# Altium schematic symbol library HZ ChMic4501_1013.SchLib: 91 symbols
Pins are listed as number, name and electrical type; pins without a type are passive.

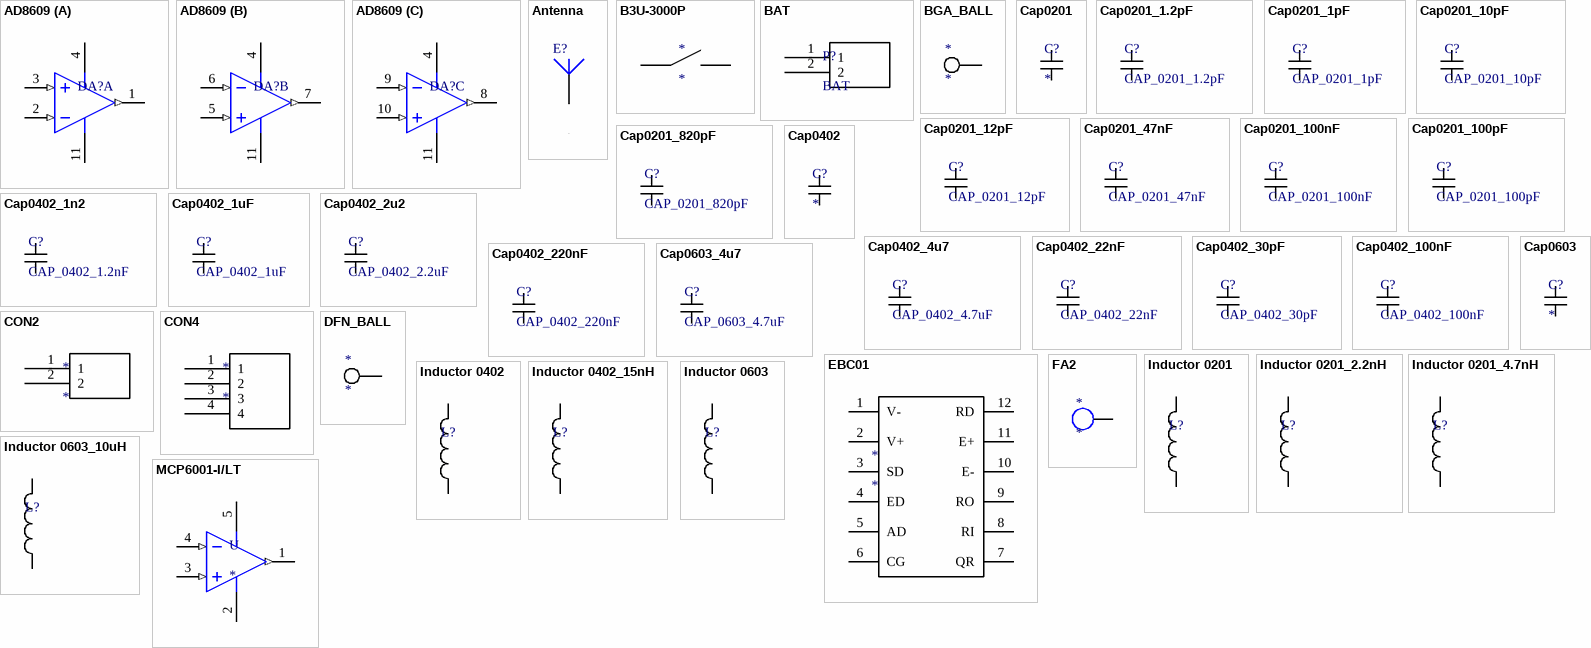
[diagram p0: symbols AD8609 to MCP6001-I/LT]

## AD8609
designator DA?  (value not drawn)
Manufacturer: Analog Devices; Manufacturer p/n: AD8609ARUZ; Glued: Yes; LatestRevisionDate: 17-Nov-2022; SMD: Yes
footprint TSSOP14
part A pins: 1 OUT (out), 2 -IN (in), 3 +IN (in), 4 VDDA (power), 11 GND (power)
part B pins: 4 VDDA (power), 5 +IN (in), 6 -IN (in), 7 OUT (out), 11 GND (power)
part C pins: 4 VDDA (power), 8 OUT (out), 9 -IN (in), 10 +IN (in), 11 GND (power)

## Antenna
designator E?
Generic Antenna; Glued: No; Published: 24-Mar-1999; LatestRevisionDate: 17-Nov-2022; PackageReference: PIN1; Publisher: Altium Limited; SMD: No
footprint 2.4G_4.3x11.8(TEST)
pins: 1 A, 2

## B3U-3000P
designator *
Manufacturer: Omron; Manufacturer p/n: B3U-3000P; Glued: No; ComponentLink1Description: Manufacturer; ComponentLink1URL: http://components.omron.eu; ComponentLink2Description: Datasheet; ComponentLink2URL: https://omronfs.omron.com/en_US/ecb/products/pdf/en-b3u.pdf; SMD: Yes; Family: Buttons
footprint B3U-3000P
pins: 1, 2

## BAT
designator P?
LP350826, LP450824, LP400824, LP420828, LP450829, LP500829 lipolbattery.com/LiPo-Battery-10mah+.html; Glued: N/A; LatestRevisionDate: 17-Nov-2022; SMD: Connecting Pad
footprint CON2
pins: 1, 2

## BGA_BALL
designator *
footprint BBGA_4x4_0.5mm_BALL
pins: 1

## Cap0201
designator C?
Glued: Yes; SMD: Yes; Family: Capacitor; LatestRevisionDate: 17-Nov-2022; ComponentLink1Description: Manufacturer; ComponentLink2Description: Datasheet
footprint CAP_0201 (Chip Capacitor, 2-Leads, Body 0.60x0.30mm, IPC High Density)
pins: 1, 2

## Cap0201_1.2pF
designator C?, comment CAP_0201_1.2pF
Manufacturer: Tayio Yuden; Manufacturer p/n: UMK063CG1R2CTHF; Glued: Yes; Value: 1.2pF; Tolerance: NP0-5%; SMD: Yes; Family: Capacitor; LatestRevisionDate: 17-Nov-2022; ComponentLink1Description: Manufacturer; ComponentLink2Description: Datasheet
footprint CAP_0201 (Chip Capacitor, 2-Leads, Body 0.60x0.30mm, IPC High Density)
pins: 1, 2

## Cap0201_1pF
designator C?, comment CAP_0201_1pF
Manufacturer: Tayio Yuden; Manufacturer p/n: UMK063CG010CTHF; Tolerance: NP0-5%; Glued: Yes; Value: 1pF; SMD: Yes; Family: Capacitor; LatestRevisionDate: 17-Nov-2022; ComponentLink1Description: Manufacturer; ComponentLink2Description: Datasheet
footprint CAP_0201 (Chip Capacitor, 2-Leads, Body 0.60x0.30mm, IPC High Density)
pins: 1, 2

## Cap0201_10pF
designator C?, comment CAP_0201_10pF
Manufacturer: Tayio Yuden; Manufacturer p/n: UMK063CG100DTHF; Glued: Yes; Value: 10pF; Tolerance: NP0-2%; SMD: Yes; Family: Capacitor; LatestRevisionDate: 17-Nov-2022; ComponentLink1Description: Manufacturer; ComponentLink2Description: Datasheet
footprint CAP_0201 (Chip Capacitor, 2-Leads, Body 0.60x0.30mm, IPC High Density)
pins: 1, 2

## Cap0201_12pF
designator C?, comment CAP_0201_12pF
Manufacturer: Tayio Yuden; Manufacturer p/n: UMK063CG120JTHF; Glued: Yes; Value: 12pF; Tolerance: NP0-2%; SMD: Yes; Family: Capacitor; LatestRevisionDate: 17-Nov-2022; ComponentLink1Description: Manufacturer; ComponentLink2Description: Datasheet
footprint CAP_0201 (Chip Capacitor, 2-Leads, Body 0.60x0.30mm, IPC High Density)
pins: 1, 2

## Cap0201_47nF
designator C?, comment CAP_0201_47nF
Manufacturer: Tayio Yuden; Manufacturer p/n: LMK063BJ473MP-F; Glued: Yes; Value: 47nF; Tolerance: X7S-10%; SMD: Yes; Family: Capacitor; LatestRevisionDate: 17-Nov-2022; ComponentLink1Description: Manufacturer; ComponentLink2Description: Datasheet
footprint CAP_0201 (Chip Capacitor, 2-Leads, Body 0.60x0.30mm, IPC High Density)
pins: 1, 2

## Cap0201_100nF
designator C?, comment CAP_0201_100nF
Manufacturer: Tayio Yuden; Manufacturer p/n: LMK063C6104KP-F; Glued: Yes; Value: 100nF; Tolerance: X7S-10%; SMD: Yes; Family: Capacitor; LatestRevisionDate: 17-Nov-2022; ComponentLink1Description: Manufacturer; ComponentLink2Description: Datasheet
footprint CAP_0201 (Chip Capacitor, 2-Leads, Body 0.60x0.30mm, IPC High Density)
pins: 1, 2

## Cap0201_100pF
designator C?, comment CAP_0201_100pF
Manufacturer: Tayio Yuden; Manufacturer p/n: TMK063BJ101KP-F; Glued: Yes; Value: 100pF; Tolerance: NP0-5%; SMD: Yes; Family: Capacitor; LatestRevisionDate: 17-Nov-2022; ComponentLink1Description: Manufacturer; ComponentLink2Description: Datasheet
footprint CAP_0201 (Chip Capacitor, 2-Leads, Body 0.60x0.30mm, IPC High Density)
pins: 1, 2

## Cap0201_820pF
designator C?, comment CAP_0201_820pF
Manufacturer: Tayio Yuden; Manufacturer p/n: UMK063CG1R2CTHF; Glued: Yes; Value: 820pF; Tolerance: X7R-10%; SMD: Yes; Family: Capacitor; LatestRevisionDate: 17-Nov-2022; ComponentLink1Description: Manufacturer; ComponentLink2Description: Datasheet
footprint CAP_0201 (Chip Capacitor, 2-Leads, Body 0.60x0.30mm, IPC High Density)
pins: 1, 2

## Cap0402
designator C?
Glued: Yes; SMD: Yes; Family: Capacitor; LatestRevisionDate: 17-Nov-2022; ComponentLink1Description: Manufacturer; ComponentLink2Description: Datasheet
footprint CAP_0402
pins: 1, 2

## Cap0402_1n2
designator C?, comment CAP_0402_1.2nF
Manufacturer: Taiyo Yuden; Manufacturer p/n: UMK105BJ122KV-F; Glued: Yes; Value: 1.2nF; Tolerance: 10%; SMD: Yes; Family: Capacitor; LatestRevisionDate: 17-Nov-2022; ComponentLink1Description: Manufacturer; ComponentLink2Description: Datasheet
footprint CAP_0402
pins: 1, 2

## Cap0402_1uF
designator C?, comment CAP_0402_1uF
Manufacturer: Taiyo Yuden; Manufacturer p/n: JMK105BJ105KV8F; Glued: Yes; Value: 1uF; Tolerance: X7S-10%; SMD: Yes; Family: Capacitor; LatestRevisionDate: 17-Nov-2022; ComponentLink1Description: Manufacturer; ComponentLink2Description: Datasheet
footprint CAP_0402
pins: 1, 2

## Cap0402_2u2
designator C?, comment CAP_0402_2.2uF
Manufacturer: Taiyo Yuden; Manufacturer p/n: EMK105CC6225KV-F; Glued: Yes; Value: 2.2uF; Tolerance: 10%; SMD: Yes; Family: Capacitor; LatestRevisionDate: 17-Nov-2022; ComponentLink1Description: Manufacturer; ComponentLink2Description: Datasheet
footprint CAP_0402
pins: 1, 2

## Cap0402_4u7
designator C?, comment CAP_0402_4.7uF
Manufacturer: Taiyo Yuden; Manufacturer p/n: JMK105BC6475MV-F; Glued: Yes; Value: 4.7uF; Tolerance: 10%; SMD: Yes; Family: Capacitor; LatestRevisionDate: 17-Nov-2022; ComponentLink1Description: Manufacturer; ComponentLink2Description: Datasheet
footprint CAP_0402
pins: 1, 2

## Cap0402_22nF
designator C?, comment CAP_0402_22nF
Lifecycle: End of Life; Manufacturer: Vishay; Manufacturer p/n: VJ0402V223MXACW1BC; Glued: Yes; Value: 22nF; Tolerance: 10%; SMD: Yes; Family: Capacitor; LatestRevisionDate: 17-Nov-2022; ComponentLink1Description: Manufacturer; ComponentLink2Description: Datasheet
footprint CAP_0402
pins: 1, 2

## Cap0402_30pF
designator C?, comment CAP_0402_30pF
Manufacturer: Yageo; Manufacturer p/n: CC0402JRNP09BN300; Glued: Yes; Value: 30pF; Tolerance: 10%; SMD: Yes; Family: Capacitor; LatestRevisionDate: 17-Nov-2022; ComponentLink1Description: Manufacturer; ComponentLink2Description: Datasheet
footprint CAP_0402
pins: 1, 2

## Cap0402_100nF
designator C?, comment CAP_0402_100nF
Manufacturer: Vishay; Manufacturer p/n: VJ0402Y104KXXCW1BC; Glued: Yes; Value: 100nF; Tolerance: 10%; SMD: Yes; Family: Capacitor; LatestRevisionDate: 17-Nov-2022; ComponentLink1Description: Manufacturer; ComponentLink2Description: Datasheet
footprint CAP_0402
pins: 1, 2

## Cap0402_220nF
designator C?, comment CAP_0402_220nF
Manufacturer: Taiyo Yuden; Manufacturer p/n: LMK105B7224KV-FR; Glued: Yes; Value: 220nF; Tolerance: 10%; SMD: Yes; Family: Capacitor; LatestRevisionDate: 17-Nov-2022; ComponentLink1Description: Manufacturer; ComponentLink2Description: Datasheet
footprint CAP_0402
pins: 1, 2

## Cap0603
designator C?
Glued: Yes; SMD: Yes; Family: Capacitor; LatestRevisionDate: 17-Nov-2022; ComponentLink1Description: Manufacturer; ComponentLink2Description: Datasheet
footprint CAP_0603
pins: 1, 2

## Cap0603_4u7
designator C?, comment CAP_0603_4.7uF
Manufacturer: Taiyo Yuden; Manufacturer p/n: LMK107BJ475MAHT; Glued: Yes; Value: 4.7uF; Tolerance: 10%; SMD: Yes; Family: Capacitor; LatestRevisionDate: 17-Nov-2022; ComponentLink1Description: Manufacturer; ComponentLink2Description: Datasheet
footprint CAP_0603
pins: 1, 2

## CON2
designator *
Glued: N/A; LatestRevisionDate: 17-Nov-2022; SMD: Connecting Pad
footprint CON2_2
pins: 1, 2

## CON4
designator *
Glued: N/A; LatestRevisionDate: 17-Nov-2022; SMD: Connecting Pad
footprint CON4
pins: 1, 2, 3, 4

## DFN_BALL
designator *  (no BOM)
footprint SOLDER_POINT_12
pins: 1

## EBC01
designator *
footprint EBC01
pins: 1 V-, 2 V+, 3 SD, 4 ED, 5 AD, 6 CG, 7 QR, 8 RI, 9 RO, 10 E-, 11 E+, 12 RD

## FA2
designator *
Glued: N/A; LatestRevisionDate: 17-Nov-2022; SMD: No
footprint FA2
pins: 2

## Inductor 0201
designator L?  (value not drawn)
Glued: Yes; SMD: Yes; LatestRevisionDate: 17-Nov-2022; ComponentLink1Description: anufacturer; ComponentLink2Description: Datasheet
footprint IND_0201 (Chip Capacitor, 2-Leads, Body 0.60x0.30mm, IPC High Density)
pins: 1, 2

## Inductor 0201_2.2nH
designator L?  (value not drawn)
Manufacturer: Murata; Manufacturer p/n: LQW03AW2N2C00D; Glued: Yes; Tolerance: 5% tol.; SMD: Yes; LatestRevisionDate: 17-Nov-2022; ComponentLink1Description: anufacturer; ComponentLink2Description: Datasheet
footprint IND_0201 (Chip Capacitor, 2-Leads, Body 0.60x0.30mm, IPC High Density)
pins: 1, 2

## Inductor 0201_4.7nH
designator L?  (value not drawn)
Manufacturer: Murata; Manufacturer p/n: LQW03AW4N7J00D; Glued: Yes; Tolerance: 5% tol.; SMD: Yes; LatestRevisionDate: 17-Nov-2022; ComponentLink1Description: anufacturer; ComponentLink2Description: Datasheet
footprint IND_0201 (Chip Capacitor, 2-Leads, Body 0.60x0.30mm, IPC High Density)
pins: 1, 2

## Inductor 0402
designator L?  (value not drawn)
Glued: Yes; SMD: Yes; LatestRevisionDate: 17-Nov-2022; ComponentLink1Description: anufacturer; ComponentLink2Description: Datasheet
footprint IND_0402
pins: 1, 2

## Inductor 0402_15nH
designator L?  (value not drawn)
Manufacturer: Abracon; Manufacturer p/n: AIMC-0402HQ-15NG-T; Glued: Yes; Tolerance: 10% tol.; SMD: Yes; LatestRevisionDate: 17-Nov-2022; ComponentLink1Description: anufacturer; ComponentLink2Description: Datasheet
footprint IND_0402
pins: 1, 2

## Inductor 0603
designator L?  (value not drawn)
Glued: Yes; SMD: Yes; LatestRevisionDate: 17-Nov-2022; ComponentLink1Description: anufacturer; ComponentLink2Description: Datasheet
footprint IND_0603
pins: 1, 2

## Inductor 0603_10uH
designator L?  (value not drawn)
Manufacturer: Bourns; Manufacturer p/n: CWF1610-100K; Glued: Yes; Tolerance: 20% tol. min 50mA; SMD: Yes; LatestRevisionDate: 17-Nov-2022; ComponentLink1Description: anufacturer; ComponentLink2Description: Datasheet
footprint IND_0603
pins: 1, 2

## MCP6001-I/LT
designator U
General Purpose Amplifier  Circuit Rail-to-Rail SC-70; MP: MCP6002T-E/MC; MF: Microchip; Glued: Yes; Package: DFN-8 Microchip; Price: None; Availability: Unavailable; Value: *; SnapEDA_Link: https://www.snapeda.com/parts/MCP6002T-E/MC/Microchip/view-part/556755/?ref=snap; SMD: Yes; LatestRevisionDate: 17-Nov-2022
footprint SC-70_Microchip (SOT23, 5-Leads, Body 2.2x1.35mm, Pitch 0.65mm, IPC Low Density)
pins: 1 OUTA (out), 2 GND (power), 3 +INA (in), 4 -INA (in), 5 VDDA (power)

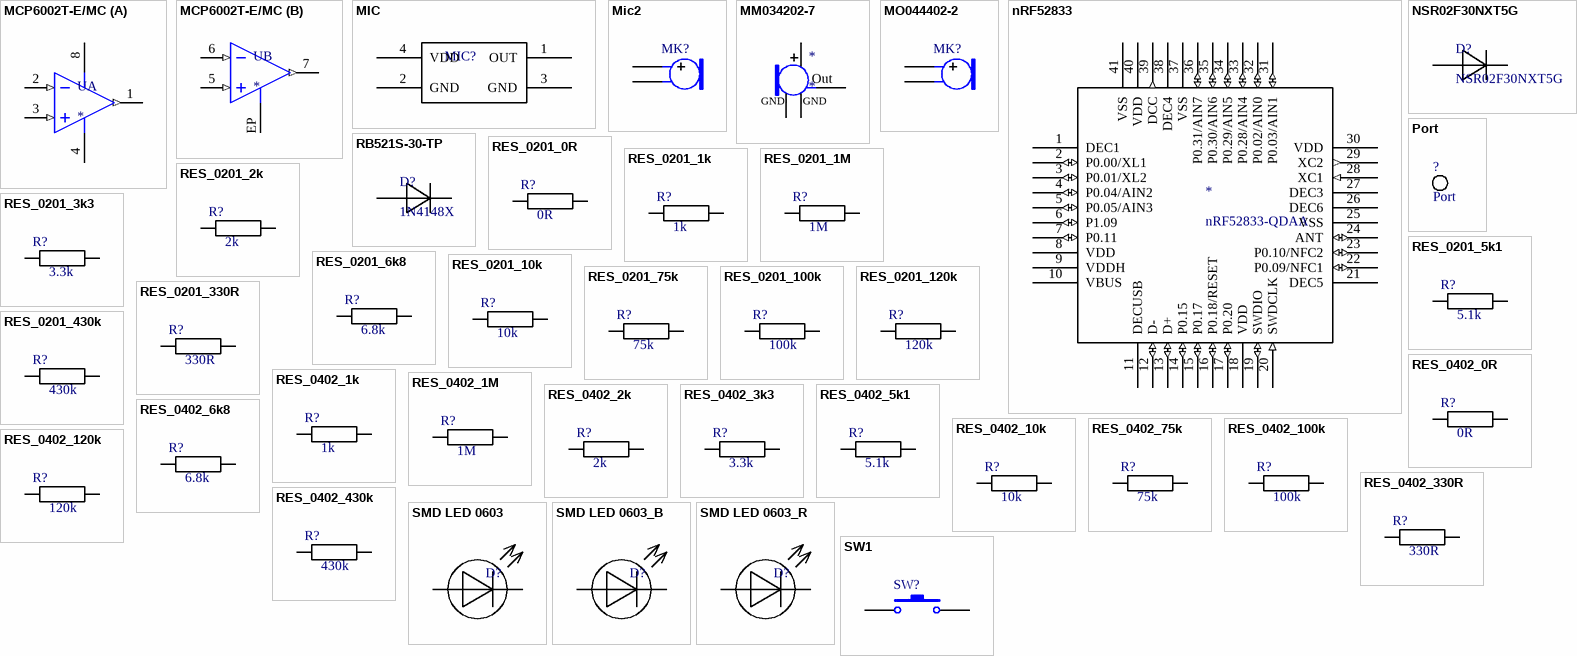
[diagram p1: symbols MCP6002T-E/MC to SW1]

## MCP6002T-E/MC
designator U
General Purpose Amplifier 2 Circuit Rail-to-Rail 8-DFN _2x3_; MP: MCP6002T-E/MC; MF: Microchip; Package: DFN-8 Microchip; Price: None; Availability: Unavailable; Value: *; SnapEDA_Link: https://www.snapeda.com/parts/MCP6002T-E/MC/Microchip/view-part/556755/?ref=snap; LatestRevisionDate: 17-Nov-2022
footprint SON50P200X300X100-9N
part A pins: 1 OUTA (out), 2 -INA (in), 3 +INA (in), 4 GND (power), 8 VDDA (power)
part B pins: 5 +INB (in), 6 -INB (in), 7 OUTB (out), EP GND (power)

## MIC
designator MIC?  (value not drawn)
Glued: N/A; LatestRevisionDate: 17-Nov-2022
footprint MIC
pins: 1 OUT, 2 GND, 3 GND, 4 VDD

## Mic2
designator MK?
Microphone; Glued: No; Published: 24-Mar-1999; LatestRevisionDate: 17-Nov-2022; PackageReference: PIN2; Publisher: Altium Limited
footprint MIC2
pins: 1, 2

## MM034202-7
designator *
Microphone; Manufacturer: DB Unlimited; Manufacturer p/n: MM034202-7; Glued: No; SMD: Yes; ComponentLink1Description: Manufacturer; ComponentLink1URL: www.dbunlimitedco.com; ComponentLink2Description: Datasheet; ComponentLink2URL: https://dbunlimitedco.com/images/product_images/2D-Drawings/MM034202-7.pdf; Family: Microphone
footprint MM034202-7
pins: 1, 2, 3, 4
text: Out; GND

## MO044402-2
designator MK?
Microphone; Manufacturer: DB Unlimited; Manufacturer p/n: MO044402-2; Glued: No; Published: 24-Mar-1999; LatestRevisionDate: 17-Nov-2022; PackageReference: PIN2; Publisher: Altium Limited; ComponentLink1Description: Manufacturer; ComponentLink2Description: Datasheet; Family: Special; SMD: Yes
footprint MO044402-2
pins: 1, 2

## nRF52833
designator *, comment nRF52833-QDAA
Manufacturer: Nordic Semiconductor; Glued: No; Manufacturer p/n: nRF52833-QDAA; LatestRevisionDate: 17-Nov-2022; ComponentLink1Description: Manufacturer; ComponentLink2Description: Datasheet; Family: Chip; SMD: Yes
footprint QFN40
pins: 1 DEC1 (power), 2 P0.00/XL1 (io), 3 P0.01/XL2 (io), 4 P0.04/AIN2 (io), 5 P0.05/AIN3 (io), 6 P1.09 (io), 7 P0.11 (io), 8 VDD (power), 9 VDDH (power), 10 VBUS (power), 11 DECUSB (power), 12 D- (io), 13 D+ (io), 14 P0.15 (io), 15 P0.17 (io), 16 P0.18/RESET (io), 17 P0.20 (io), 18 VDD (power), 19 SWDIO (io), 20 SWDCLK (in), 21 DEC5 (power), 22 P0.09/NFC1 (io), 23 P0.10/NFC2 (io), 24 ANT (io), 25 VSS (power), 26 DEC6 (power), 27 DEC3 (power), 28 XC1 (in), 29 XC2 (out), 30 VDD (power), 31 P0.03/AIN1 (io), 32 P0.02/AIN0 (io), 33 P0.28/AIN4 (io), 34 P0.29/AIN5 (io), 35 P0.30/AIN6 (io), 36 P0.31/AIN7 (io), 37 VSS (power), 38 DEC4 (power), 39 DCC (out), 40 VDD (power), 41 VSS (power)

## NSR02F30NXT5G
designator D?
Schottky barrier diode; Manufacturer: Micro Commercial Components; Manufacturer P/N: RB521S-30-TP; Glued: Yes; ComponentLink1Description: Manufacturer; ComponentLink2Description: Datasheet; Family: Diodes&Transistors; Parameter 1: *; LatestRevisionDate: 17-Nov-2022; SMD: Yes
footprint Case 152AA (DSN2) (Diode DSN2)
pins: 1 K, 2 A

## Port
designator ?
footprint Electrode_con
pins: 1

## RB521S-30-TP
designator D?, comment 1N4148X
200mW Switching Diodes; Manufacturer: Micro Commercial Components; Manufacturer P/N: RB521S-30-TP; Glued: Yes; ComponentLink1Description: Manufacturer; ComponentLink2Description: Datasheet; Family: Diodes&Transistors; Parameter 1: *; LatestRevisionDate: 17-Nov-2022; SMD: Yes
footprint SOD523
pins: 1 K, 2 A

## RES_0201_0R
designator R?  value 0R  (hidden comment: RES_0201_0R)
Chip Resistor 0201  Size; Manufacturer: VISHAY; Manufacturer P/N: CRCW02010000Z0ED; Part: 0R, 5%tol.; Glued: Yes; Tolerance: 5% tol.; ComponentLink1Description: Manufacturer; ComponentLink1URL: http://www.vishay.com; ComponentLink2Description: Datasheet; ComponentLink2URL: http://www.vishay.com/docs/20035/dcrcwe3.pdf; Family: Resistor; SMD: Yes; LatestRevisionDate: 17-Nov-2022
footprint RES_0201 (Chip Resistor, 2-Leads, Body 0.60x0.30mm, IPC High Density)
pins: 1, 2

## RES_0201_1k
designator R?  value 1k  (hidden comment: RES_0201_1k)
Chip Resistor 0201  Size; Manufacturer: VISHAY; Manufacturer P/N: CRCW02011K00JNED; Part: 1 Kohm, 5%tol.; Glued: Yes; Tolerance: 5% tol.; ComponentLink1Description: Manufacturer; ComponentLink1URL: http://www.vishay.com; ComponentLink2Description: Datasheet; ComponentLink2URL: http://www.vishay.com/docs/20035/dcrcwe3.pdf; Family: Resistor; SMD: Yes; LatestRevisionDate: 17-Nov-2022
footprint RES_0201 (Chip Resistor, 2-Leads, Body 0.60x0.30mm, IPC High Density)
pins: 1, 2

## RES_0201_1M
designator R?  value 1M  (hidden comment: RES_0201_1M)
Chip Resistor 0201  Size; Manufacturer: VISHAY; Manufacturer P/N: CRCW02011M00JNED; Part: 1 Mohm, 5%tol.; Glued: Yes; Tolerance: 5% tol.; ComponentLink1Description: Manufacturer; ComponentLink1URL: http://www.vishay.com; ComponentLink2Description: Datasheet; ComponentLink2URL: http://www.vishay.com/docs/20035/dcrcwe3.pdf; Family: Resistor; SMD: Yes; LatestRevisionDate: 17-Nov-2022
footprint RES_0201 (Chip Resistor, 2-Leads, Body 0.60x0.30mm, IPC High Density)
pins: 1, 2

## RES_0201_2k
designator R?  value 2k  (hidden comment: RES_0201_2k)
Chip Resistor 0201  Size; Manufacturer: VISHAY; Manufacturer P/N: CRCW02012K00JNED; Part: 2 Kohm, 5%tol.; Glued: Yes; Tolerance: 5% tol.; ComponentLink1Description: Manufacturer; ComponentLink1URL: http://www.vishay.com; ComponentLink2Description: Datasheet; ComponentLink2URL: http://www.vishay.com/docs/20035/dcrcwe3.pdf; Family: Resistor; SMD: Yes; LatestRevisionDate: 17-Nov-2022
footprint RES_0201 (Chip Resistor, 2-Leads, Body 0.60x0.30mm, IPC High Density)
pins: 1, 2

## RES_0201_3k3
designator R?  value 3.3k  (hidden comment: RES_0201_3k3)
Chip Resistor 0201  Size; Manufacturer: VISHAY; Manufacturer P/N: CRCW02013K30JNED; Part: 3.3 Kohm, 5%tol.; Glued: Yes; Tolerance: 5% tol.; ComponentLink1Description: Manufacturer; ComponentLink1URL: http://www.vishay.com; ComponentLink2Description: Datasheet; ComponentLink2URL: http://www.vishay.com/docs/20035/dcrcwe3.pdf; Family: Resistor; SMD: Yes; LatestRevisionDate: 17-Nov-2022
footprint RES_0201 (Chip Resistor, 2-Leads, Body 0.60x0.30mm, IPC High Density)
pins: 1, 2

## RES_0201_5k1
designator R?  value 5.1k  (hidden comment: RES_0201_5k1)
Chip Resistor 0201  Size; Manufacturer: VISHAY; Manufacturer P/N: CRCW02015K10JNED; Part: 5.1 Kohm, 5%tol.; Glued: Yes; Tolerance: 5% tol.; ComponentLink1Description: Manufacturer; ComponentLink1URL: http://www.vishay.com; ComponentLink2Description: Datasheet; ComponentLink2URL: http://www.vishay.com/docs/20035/dcrcwe3.pdf; Family: Resistor; SMD: Yes; LatestRevisionDate: 17-Nov-2022
footprint RES_0201 (Chip Resistor, 2-Leads, Body 0.60x0.30mm, IPC High Density)
pins: 1, 2

## RES_0201_6k8
designator R?  value 6.8k  (hidden comment: RES_0201_6k8)
Chip Resistor 0201  Size; Manufacturer: VISHAY; Manufacturer P/N: CRCW02016K80JNED; Part: 6.8 Kohm, 5%tol.; Glued: Yes; Tolerance: 5% tol.; ComponentLink1Description: Manufacturer; ComponentLink1URL: http://www.vishay.com; ComponentLink2Description: Datasheet; ComponentLink2URL: http://www.vishay.com/docs/20035/dcrcwe3.pdf; Family: Resistor; SMD: Yes; LatestRevisionDate: 17-Nov-2022
footprint RES_0201 (Chip Resistor, 2-Leads, Body 0.60x0.30mm, IPC High Density)
pins: 1, 2

## RES_0201_10k
designator R?  value 10k  (hidden comment: RES_0201_10k)
Chip Resistor 0201  Size; Manufacturer: VISHAY; Manufacturer P/N: CRCW020110K0JNED; Part: 10 Kohm, 5%tol.; Glued: Yes; Tolerance: 5% tol.; ComponentLink1Description: Manufacturer; ComponentLink1URL: http://www.vishay.com; ComponentLink2Description: Datasheet; ComponentLink2URL: http://www.vishay.com/docs/20035/dcrcwe3.pdf; Family: Resistor; SMD: Yes; LatestRevisionDate: 17-Nov-2022
footprint RES_0201 (Chip Resistor, 2-Leads, Body 0.60x0.30mm, IPC High Density)
pins: 1, 2

## RES_0201_75k
designator R?  value 75k  (hidden comment: RES_0201_75k)
Chip Resistor 0201  Size; Manufacturer: VISHAY; Manufacturer P/N: CRCW020175K0JNED; Part: 75 Kohm, 5%tol.; Glued: Yes; Tolerance: 5% tol.; ComponentLink1Description: Manufacturer; ComponentLink1URL: http://www.vishay.com; ComponentLink2Description: Datasheet; ComponentLink2URL: http://www.vishay.com/docs/20035/dcrcwe3.pdf; Family: Resistor; SMD: Yes; LatestRevisionDate: 17-Nov-2022
footprint RES_0201 (Chip Resistor, 2-Leads, Body 0.60x0.30mm, IPC High Density)
pins: 1, 2

## RES_0201_100k
designator R?  value 100k  (hidden comment: RES_0201_100k)
Chip Resistor 0201  Size; Manufacturer: VISHAY; Manufacturer P/N: CRCW0201100KJNED; Part: 100 Kohm, 5%tol.; Glued: Yes; Tolerance: 5% tol.; ComponentLink1Description: Manufacturer; ComponentLink1URL: http://www.vishay.com; ComponentLink2Description: Datasheet; ComponentLink2URL: http://www.vishay.com/docs/20035/dcrcwe3.pdf; Family: Resistor; SMD: Yes; LatestRevisionDate: 17-Nov-2022
footprint RES_0201 (Chip Resistor, 2-Leads, Body 0.60x0.30mm, IPC High Density)
pins: 1, 2

## RES_0201_120k
designator R?  value 120k  (hidden comment: RES_0201_120k)
Chip Resistor 0201  Size; Manufacturer: VISHAY; Manufacturer P/N: CRCW0201120KJNED; Part: 120 Kohm, 5%tol.; Glued: Yes; Tolerance: 5% tol.; ComponentLink1Description: Manufacturer; ComponentLink1URL: http://www.vishay.com; ComponentLink2Description: Datasheet; ComponentLink2URL: http://www.vishay.com/docs/20035/dcrcwe3.pdf; Family: Resistor; SMD: Yes; LatestRevisionDate: 17-Nov-2022
footprint RES_0201 (Chip Resistor, 2-Leads, Body 0.60x0.30mm, IPC High Density)
pins: 1, 2

## RES_0201_330R
designator R?  value 330R  (hidden comment: RES_0201_330R)
Chip Resistor 0201  Size; Manufacturer: VISHAY; Manufacturer P/N: CRCW0201330RJNED; Part: 330 ohm, 5%tol.; Glued: Yes; Tolerance: 5% tol.; ComponentLink1Description: Manufacturer; ComponentLink1URL: http://www.vishay.com; ComponentLink2Description: Datasheet; ComponentLink2URL: http://www.vishay.com/docs/20035/dcrcwe3.pdf; Family: Resistor; SMD: Yes; LatestRevisionDate: 17-Nov-2022
footprint RES_0201 (Chip Resistor, 2-Leads, Body 0.60x0.30mm, IPC High Density)
pins: 1, 2

## RES_0201_430k
designator R?  value 430k  (hidden comment: RES_0201_430k)
Chip Resistor 0201  Size; Manufacturer: VISHAY; Manufacturer P/N: CRCW0201430KJNED; Part: 430 Kohm, 5%tol.; Glued: Yes; Tolerance: 5% tol.; ComponentLink1Description: Manufacturer; ComponentLink1URL: http://www.vishay.com; ComponentLink2Description: Datasheet; ComponentLink2URL: http://www.vishay.com/docs/20035/dcrcwe3.pdf; Family: Resistor; SMD: Yes; LatestRevisionDate: 17-Nov-2022
footprint RES_0201 (Chip Resistor, 2-Leads, Body 0.60x0.30mm, IPC High Density)
pins: 1, 2

## RES_0402_0R
designator R?  value 0R  (hidden comment: RES_0402_0R)
Chip Resistor 0402  Size; Manufacturer: VISHAY; Manufacturer P/N: CRCW04020000Z0ED; Part: 3.3 Kohm, 5%tol.; Glued: Yes; Tolerance: 5% tol.; ComponentLink1Description: Manufacturer; ComponentLink1URL: http://www.vishay.com; ComponentLink2Description: Datasheet; ComponentLink2URL: http://www.vishay.com/docs/20035/dcrcwe3.pdf; Family: Resistor; SMD: Yes; LatestRevisionDate: 17-Nov-2022
footprint RES_0402
pins: 1, 2

## RES_0402_1k
designator R?  value 1k  (hidden comment: RES_0402_1k)
Chip Resistor 0402  Size; Manufacturer: VISHAY; Manufacturer P/N: CRCW04021K00JNED; Part: 1 Kohm, 5%tol.; Glued: Yes; Tolerance: 5% tol.; ComponentLink1Description: Manufacturer; ComponentLink1URL: http://www.vishay.com; ComponentLink2Description: Datasheet; ComponentLink2URL: http://www.vishay.com/docs/20035/dcrcwe3.pdf; Family: Resistor; SMD: Yes; LatestRevisionDate: 17-Nov-2022
footprint RES_0402
pins: 1, 2

## RES_0402_1M
designator R?  value 1M  (hidden comment: RES_0402_1M)
Chip Resistor 0402  Size; Manufacturer: VISHAY; Manufacturer P/N: CRCW04021M00JNED; Part: 1 Mohm, 5%tol.; Glued: Yes; Tolerance: 5% tol.; ComponentLink1Description: Manufacturer; ComponentLink1URL: http://www.vishay.com; ComponentLink2Description: Datasheet; ComponentLink2URL: http://www.vishay.com/docs/20035/dcrcwe3.pdf; Family: Resistor; SMD: Yes; LatestRevisionDate: 17-Nov-2022
footprint RES_0402
pins: 1, 2

## RES_0402_2k
designator R?  value 2k  (hidden comment: RES_0402_2k)
Chip Resistor 0402  Size; Manufacturer: VISHAY; Manufacturer P/N: CRCW04022K00JNED; Part: 2 Kohm, 5%tol.; Glued: Yes; Tolerance: 5% tol.; ComponentLink1Description: Manufacturer; ComponentLink1URL: http://www.vishay.com; ComponentLink2Description: Datasheet; ComponentLink2URL: http://www.vishay.com/docs/20035/dcrcwe3.pdf; Family: Resistor; SMD: Yes; LatestRevisionDate: 17-Nov-2022
footprint RES_0402
pins: 1, 2

## RES_0402_3k3
designator R?  value 3.3k  (hidden comment: RES_0402_3k3)
Chip Resistor 0402  Size; Manufacturer: VISHAY; Manufacturer P/N: CRCW04023K30JNED; Part: 3.3 Kohm, 5%tol.; Glued: Yes; Tolerance: 5% tol.; ComponentLink1Description: Manufacturer; ComponentLink1URL: http://www.vishay.com; ComponentLink2Description: Datasheet; ComponentLink2URL: http://www.vishay.com/docs/20035/dcrcwe3.pdf; Family: Resistor; SMD: Yes; LatestRevisionDate: 17-Nov-2022
footprint RES_0402
pins: 1, 2

## RES_0402_5k1
designator R?  value 5.1k  (hidden comment: RES_0402_5k1)
Chip Resistor 0402  Size; Manufacturer: VISHAY; Manufacturer P/N: CRCW04025K10JNED; Part: 5.1 Kohm, 5%tol.; Glued: Yes; Tolerance: 5% tol.; ComponentLink1Description: Manufacturer; ComponentLink1URL: http://www.vishay.com; ComponentLink2Description: Datasheet; ComponentLink2URL: http://www.vishay.com/docs/20035/dcrcwe3.pdf; Family: Resistor; SMD: Yes; LatestRevisionDate: 17-Nov-2022
footprint RES_0402
pins: 1, 2

## RES_0402_6k8
designator R?  value 6.8k  (hidden comment: RES_0402_6k8)
Chip Resistor 0402  Size; Manufacturer: VISHAY; Manufacturer P/N: CRCW04026K80JNED; Part: 6.8 Kohm, 5%tol.; Glued: Yes; Tolerance: 5% tol.; ComponentLink1Description: Manufacturer; ComponentLink1URL: http://www.vishay.com; ComponentLink2Description: Datasheet; ComponentLink2URL: http://www.vishay.com/docs/20035/dcrcwe3.pdf; Family: Resistor; SMD: Yes; LatestRevisionDate: 17-Nov-2022
footprint RES_0402
pins: 1, 2

## RES_0402_10k
designator R?  value 10k  (hidden comment: RES_0402_10k)
Chip Resistor 0402  Size; Manufacturer: VISHAY; Manufacturer P/N: CRCW040210K0JNED; Part: 10 Kohm, 5%tol.; Glued: Yes; Tolerance: 5% tol.; ComponentLink1Description: Manufacturer; ComponentLink1URL: http://www.vishay.com; ComponentLink2Description: Datasheet; ComponentLink2URL: http://www.vishay.com/docs/20035/dcrcwe3.pdf; Family: Resistor; SMD: Yes; LatestRevisionDate: 17-Nov-2022
footprint RES_0402
pins: 1, 2

## RES_0402_75k
designator R?  value 75k  (hidden comment: RES_0402_75k)
Chip Resistor 0402  Size; Manufacturer: VISHAY; Manufacturer P/N: CRCW040275K0JNED; Part: 75 Kohm, 5%tol.; Glued: Yes; Tolerance: 5% tol.; ComponentLink1Description: Manufacturer; ComponentLink1URL: http://www.vishay.com; ComponentLink2Description: Datasheet; ComponentLink2URL: http://www.vishay.com/docs/20035/dcrcwe3.pdf; Family: Resistor; SMD: Yes; LatestRevisionDate: 17-Nov-2022
footprint RES_0402
pins: 1, 2

## RES_0402_100k
designator R?  value 100k  (hidden comment: RES_0402_100k)
Chip Resistor 0402  Size; Manufacturer: VISHAY; Manufacturer P/N: CRCW0402100KJNED; Part: 100 Kohm, 5%tol.; Glued: Yes; Tolerance: 5% tol.; ComponentLink1Description: Manufacturer; ComponentLink1URL: http://www.vishay.com; ComponentLink2Description: Datasheet; ComponentLink2URL: http://www.vishay.com/docs/20035/dcrcwe3.pdf; Family: Resistor; SMD: Yes; LatestRevisionDate: 17-Nov-2022
footprint RES_0402
pins: 1, 2

## RES_0402_120k
designator R?  value 120k  (hidden comment: RES_0402_120k)
Chip Resistor 0402  Size; Manufacturer: VISHAY; Manufacturer P/N: CRCW0402120KJNED; Part: 120 Kohm, 5%tol.; Glued: Yes; Tolerance: 5% tol.; ComponentLink1Description: Manufacturer; ComponentLink1URL: http://www.vishay.com; ComponentLink2Description: Datasheet; ComponentLink2URL: http://www.vishay.com/docs/20035/dcrcwe3.pdf; Family: Resistor; SMD: Yes; LatestRevisionDate: 17-Nov-2022
footprint RES_0402
pins: 1, 2

## RES_0402_330R
designator R?  value 330R  (hidden comment: RES_0402_330R)
Chip Resistor 0402  Size; Manufacturer: VISHAY; Manufacturer P/N: CRCW0402330RJNED; Part: 330 ohm, 5%tol.; Glued: Yes; Tolerance: 5% tol.; ComponentLink1Description: Manufacturer; ComponentLink1URL: http://www.vishay.com; ComponentLink2Description: Datasheet; ComponentLink2URL: http://www.vishay.com/docs/20035/dcrcwe3.pdf; Family: Resistor; SMD: Yes; LatestRevisionDate: 17-Nov-2022
footprint RES_0402
pins: 1, 2

## RES_0402_430k
designator R?  value 430k  (hidden comment: RES_0402_430k)
Chip Resistor 0402  Size; Manufacturer: VISHAY; Manufacturer P/N: CRCW0402430KJNED; Part: 430 Kohm, 5%tol.; Glued: Yes; Tolerance: 5% tol.; ComponentLink1Description: Manufacturer; ComponentLink1URL: http://www.vishay.com; ComponentLink2Description: Datasheet; ComponentLink2URL: http://www.vishay.com/docs/20035/dcrcwe3.pdf; Family: Resistor; SMD: Yes; LatestRevisionDate: 17-Nov-2022
footprint RES_0402
pins: 1, 2

## SMD LED 0603
designator D?
SMD LED; Manufacturer: Keightbright; Manufacturer P/N: APA1606CGCK; Glued: Yes; ComponentLink1Description: Manufacturer; ComponentLink2Description: Datasheet; Part: APA1606CGCK; SMD: Yes; LatestRevisionDate: 17-Nov-2022; Family: Diodes&Transistors
footprint LED_0603
pins: 1 A, 2 K

## SMD LED 0603_B
designator D?
SMD LED; Manufacturer: Keightbright; Manufacturer P/N: APA1606CGCK; Glued: Yes; ComponentLink1Description: Manufacturer; ComponentLink2Description: Datasheet; Part: APA1606CGCK; SMD: Yes; LatestRevisionDate: 17-Nov-2022; Family: Diodes&Transistors
footprint LED_0603 - BLUE
pins: 1 A, 2 K

## SMD LED 0603_R
designator D?
SMD LED; Manufacturer: Keightbright; Manufacturer P/N: APA1606CGCK; Glued: Yes; ComponentLink1Description: Manufacturer; ComponentLink2Description: Datasheet; Part: APA1606CGCK; SMD: Yes; LatestRevisionDate: 17-Nov-2022; Family: Diodes&Transistors
footprint LED_0603 - Red
pins: 1 A, 2 K

## SW1
designator SW?
Switch; Published: 24-Mar-1999; LatestRevisionDate: 17-Nov-2022; PackageReference: SPST-2; Publisher: Altium Limited; PackageDescription: Switch; 2 Leads
footprint 0510J
pins: 1, 2

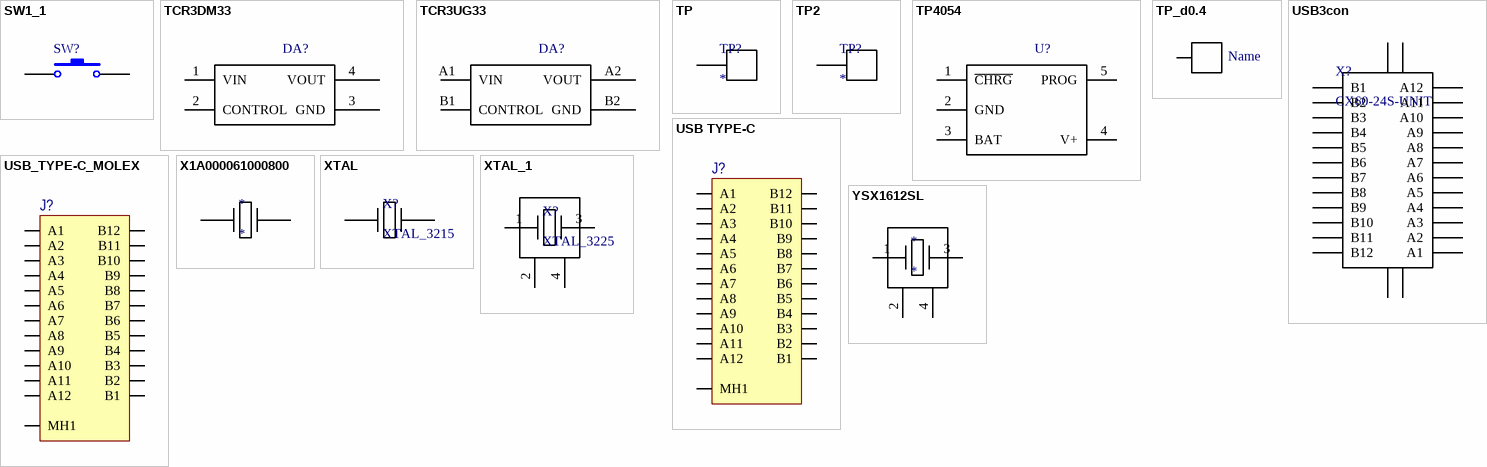
[diagram p2: symbols SW1_1 to YSX1612SL]

## SW1_1
designator SW?
NRS-701-0510TF, RI-80SMD-0510-G1, UM2325; Manufacturer: Aleph; Manufacturer p/n: NRS-701A; Glued: No; LatestRevisionDate: 17-Nov-2022; Publisher: Altium Limited; PackageDescription: Switch; 2 Leads; ComponentLink1Description: Manufacturer; ComponentLink2Description: Datasheet; SMD: Yes
footprint ReedSwitch
pins: 1, 2

## TCR3DM33
designator DA?  (value not drawn)
Manufacturer: Toshiba; Manufacturer p/n: TCR3DM33,LF; Tolerance: Error in design; Value: Error in design; LatestRevisionDate: 17-Nov-2022; ComponentLink1Description: Manufacturer; ComponentLink2Description: Datasheet; Family: Error in design
footprint VREG_LD39020DTPU33R
pins: 1 VIN, 2 CONTROL, 3 GND, 4 VOUT

## TCR3UG33
designator DA?  (value not drawn)
Manufacturer: Toshiba; Manufacturer p/n: TCR3DM33,LF; Glued: No; LatestRevisionDate: 17-Nov-2022; ComponentLink1Description: Manufacturer; ComponentLink2Description: Datasheet; Family: Chip; SMD: Yes
footprint WCSP4F
pins: A1 VIN, A2 VOUT, B1 CONTROL, B2 GND

## TP
designator TP?
LatestRevisionDate: 17-Nov-2022
footprint TP
pins: 1

## TP2
designator TP?
LatestRevisionDate: 17-Nov-2022
footprint TPbig
pins: 1

## TP4054
designator U?  (value not drawn)
TP4054-42-SOT25-R; Manufacturer: Micros; Glued: Yes; Manufacturer p/n: TP4054-42-SOT25-R; LatestRevisionDate: 17-Nov-2022; ComponentLink1Description: Manufacturer; ComponentLink2Description: Datasheet; Family: Chip; SMD: Yes
footprint SOT235
pins: 1 ~{CHRG}, 2 GND, 3 BAT, 4 V+, 5 PROG

## TP_d0.4
designator TP?, comment value Name  (hidden comment: Test Point)  (no BOM)
Family: Connectors
footprint TestPoint_d0.4mm
pins: 1 TP

## USB3con
designator X?, comment CX60-24S-UNIT
CX_CL0480-0465-0-00; Manufacturer: Hirose Electric CO., LTD; Glued: No; ComponentLink1Description: Manufacturer; ComponentLink1URL: *; ComponentLink2Description: Datasheet; ComponentLink2URL: *; Manufacturer P/N: CX60-24S-UNIT; Family: Connectors; LatestRevisionDate: 17-Nov-2022; SMD: Edge
footprint TYPEC
pins: 0 GND, 0 GND, 0 GND, 0 GND, A1, A2, A3, A4, A5, A6, A7, A8, A9, A10, A11, A12, B1, B2, B3, B4, B5, B6, B7, B8, B9, B10, B11, B12

## USB TYPE-C
designator J?
Connector; Value: USB TYPE-C
footprint USB TYPE-C
pins: A1, A2, A3, A4, A5, A6, A7, A8, A9, A10, A11, A12, B1, B2, B3, B4, B5, B6, B7, B8, B9, B10, B11, B12, M1 MH1

## USB_TYPE-C_MOLEX
designator J?
Connector; Value: USB TYPE-C
footprint Molex 1054550101 (USB-C)
pins: A1, A2, A3, A4, A5, A6, A7, A8, A9, A10, A11, A12, B1, B2, B3, B4, B5, B6, B7, B8, B9, B10, B11, B12, M1 MH1

## X1A000061000800
designator *
32.768kHz, Cl=9 pF, ±20 ppm; Manufacturer: Seiko Epson Corporation; Manufacturer P/N: X1A000061000800; Glued: No; Family: Crystall; SMD: Yes
footprint FC-12M
pins: 1, 2

## XTAL
designator X?, comment XTAL_3215
32.768kHz, Cl=9 pF, ±50 ppm; Glued: No; ComponentLink1Description: Manufacturer; ComponentLink1URL: http://www.abracon.com; ComponentLink2Description: Datasheet; ComponentLink2URL: http://www.abracon.com/Resonators/abm7.pdf; Manufacturer: *; Manufacturer P/N: 32.768kHz, Cl=9 pF, ±50 ppm; Part: *; Family: Crystall; SMD: Yes; Tolerance: 32.768kHz, Cl=9 pF, ±50 ppm; LatestRevisionDate: 17-Nov-2022
footprint XTAL_3215
pins: 1, 2

## XTAL_1
designator X?, comment XTAL_3225
32MHz, Cl=8 pF, ±40 ppm; Manufacturer: Epson; Manufacturer P/N: TSX-3225 32.000000MHz 12.0 +/-10ppm; Glued: No; ComponentLink1Description: Manufacturer; ComponentLink2Description: Datasheet; Part: *; Family: Crystall; SMD: Yes; Tolerance: 32MHz, Cl=8 pF, ±40 ppm; LatestRevisionDate: 17-Nov-2022
footprint TSX-3225
pins: 1, 2, 3, 4

## YSX1612SL
designator *
32MHz, Cl=8 pF, ±20 ppm; Manufacturer: SHENZHEN YANGXING TECHNOLOGY CO., LTD.; Manufacturer P/N: X161232M; Glued: No; SMD: Yes; Family: Crystall; ComponentLink1Description: Datasheet; ComponentLink1URL: https://www.yangxing.hk/u_file/photo/20200311/YSX1612SL-Datasheet.pdf; ComponentLink2Description: Manufacturer; ComponentLink2URL: https://www.yangxing.hk/
footprint YSX1612SL
pins: 1, 2, 3, 4